# Altium schematic symbol library quadrotor.SchLib: 19 symbols
Pins are listed as number, name and electrical type; pins without a type are passive.

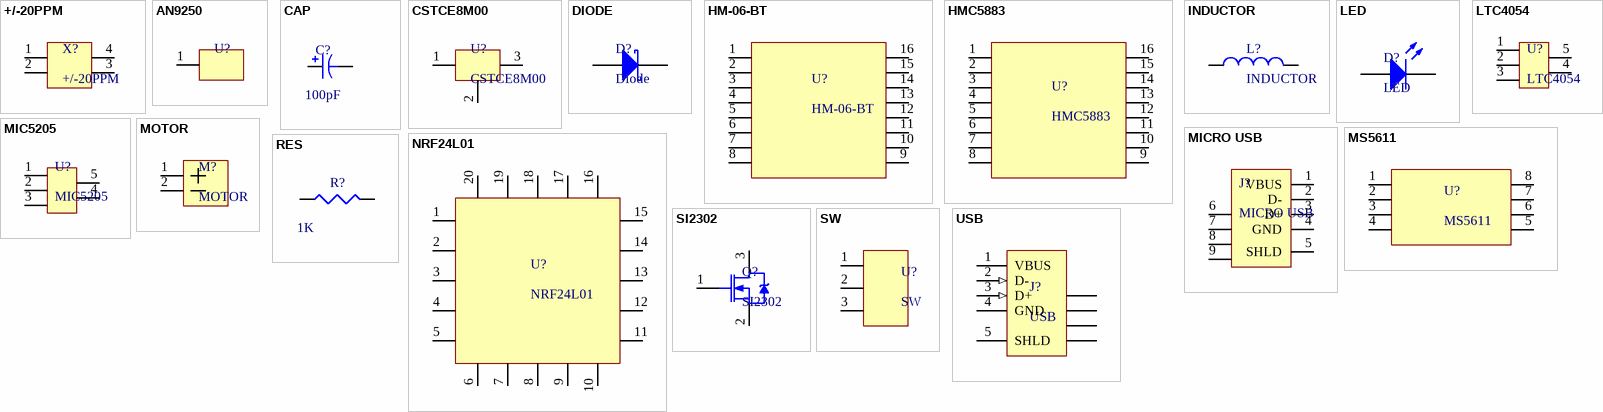
[diagram p0: symbols +/-20PPM to USB]

## +/-20PPM
designator X?
footprint CST20PPM
pins: 1, 2, 3, 4

## AN9250
designator U?  (value not drawn)
pins: 1

## CAP
designator C?  value 100pF  (hidden comment: CAP)
footprint 0603
pins: 1, 2

## CSTCE8M00
designator U?
footprint CSTCE8M00
pins: 1, 2, 3

## DIODE
designator D?, comment Diode
footprint Diode
pins: A, K

## HM-06-BT
designator U?
footprint HM-06
pins: 1, 2, 3, 4, 5, 6, 7, 8, 9, 10, 11, 12, 13, 14, 15, 16

## HMC5883
designator U?
footprint HMC5883
pins: 1, 2, 3, 4, 5, 6, 7, 8, 9, 10, 11, 12, 13, 14, 15, 16

## INDUCTOR
designator L?
Value: 4.7uH
footprint CD54
footprint 0603
pins: 1, 2

## LED
designator D?
footprint DIODE0603
pins: 1 A, 2 K

## LTC4054
designator U?
footprint LTC4054
pins: 1, 2, 3, 4, 5

## MIC5205
designator U?
footprint MIC5205
pins: 1, 2, 3, 4, 5

## MICRO USB
designator J?
pins: 1 VBUS, 2 D-, 3 D+, 4 GND, 5 SHLD, 6, 7, 8, 9

## MOTOR
designator M?
footprint MOTOR
pins: 1, 2

## MS5611
designator U?
footprint MS5611
pins: 1, 2, 3, 4, 5, 6, 7, 8

## NRF24L01
designator U?
footprint NRF24L01
pins: 1, 2, 3, 4, 5, 6, 7, 8, 9, 10, 11, 12, 13, 14, 15, 16, 17, 18, 19, 20

## RES
designator R?  value 1K  (hidden comment: RES)
footprint 0603
pins: 1, 2

## SI2302
designator Q?
footprint SI2303
pins: 1, 2, 3

## SW
designator U?
footprint SW
pins: 1, 2, 3

## USB
designator J?
footprint USB
pins: 1 VBUS (power) "Power", 2 D- (in) "-DATA", 3 D+ (in) "+DATA", 4 GND (power) "Ground", 5 SHLD "Shield", 6 SHLD "Shield", 7 SHLD "Shield", 8 SHLD "Shield", 9 SHLD "Shield"